# Altium footprint library Linear Technology Footprints.PcbLib: 52 footprints (part 4 of 4)
Each footprint in its own frame and in the unit in brackets; x right, y up, seen from the top. Pads: shape width x height; smd on the part's side, far side on the other; paste and mask are expansions set on the pad; w line width, h text height; cw(c..) or ccw(c..) is an arc to the next point about the centre after c.
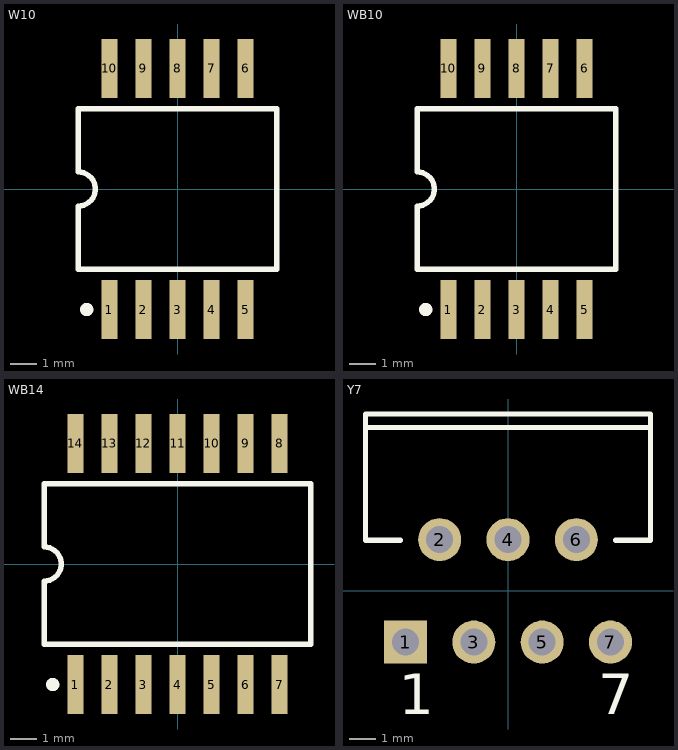
[diagram p3: the footprints below, top view; thin cyan lines are the x and y axes]

## W10 [mm] "DFP; 10 Leads; Body 7.4 x 6.6 mm (LxW max); Pitch 1.27 mm"
height 2.16
pads (10):
  rect 0.6x2.2 smd: 1(-2.54,-4.5) 2(-1.27,-4.5) 3(0,-4.5) 4(1.27,-4.5) 5(2.54,-4.5) 6(2.54,4.5) 7(1.27,4.5) 8(0,4.5) 9(-1.27,4.5) 10(-2.54,4.5)
Top Overlay:
  circle w0.25: c-3.39,-4.5 r0.125
  lines w0.2: -3.7,-3 -3.7,-0.635 ccw(c-3.7,0) -3.7,0.635 -3.7,3 3.7,3 3.7,-3 -3.7,-3

## WB10 [mm] "DFP; 10 Leads; Body 7.4 x 6.6 mm (LxW max); Pitch 1.27 mm"
height 2.93
pads (10):
  rect 0.6x2.2 smd: 1(-2.54,-4.5) 2(-1.27,-4.5) 3(0,-4.5) 4(1.27,-4.5) 5(2.54,-4.5) 6(2.54,4.5) 7(1.27,4.5) 8(0,4.5) 9(-1.27,4.5) 10(-2.54,4.5)
Top Overlay:
  circle w0.25: c-3.39,-4.5 r0.125
  lines w0.2: -3.7,-3 -3.7,-0.635 ccw(c-3.7,0) -3.7,0.635 -3.7,3 3.7,3 3.7,-3 -3.7,-3

## WB14 [mm] "DFP; 14 Leads; Body 9.9 x 6.6 mm (LxW max); Pitch 1.27 mm"
height 2.93
pads (14):
  rect 0.6x2.2 smd: 1(-3.81,-4.5) 2(-2.54,-4.5) 3(-1.27,-4.5) 4(0,-4.5) 5(1.27,-4.5) 6(2.54,-4.5) 7(3.81,-4.5) 8(3.81,4.5) 9(2.54,4.5) 10(1.27,4.5) 11(0,4.5) 12(-1.27,4.5) 13(-2.54,4.5) 14(-3.81,4.5)
Top Overlay:
  circle w0.25: c-4.66,-4.5 r0.125
  lines w0.2: -4.975,-3 4.975,-3 4.975,3 -4.975,3 -4.975,0.635 cw(c-4.975,0) -4.975,-0.635 -4.975,-3

## Y7 [mm] "TO, Thru-Hole, Vertical, Heatsink Mounted; 7 Bent Staggered Leads; Pitch 1.27 mm"
height 21.4
pads (7):
  rect 1.6x1.6 hole 1: 1(-3.81,-1.905)
  round 1.6 hole 1: 2(-2.54,1.905) 3(-1.27,-1.905) 4(0,1.905) 5(1.27,-1.905) 6(2.54,1.905) 7(3.81,-1.905)
Top Overlay:
  lines w0.2: -5.3,6.075 5.3,6.075 ; -4,1.875 -5.3,1.875 -5.3,6.575 5.3,6.575 5.3,1.875 4,1.875
  text "1" at -4.06,-4.58 h1.5
  text "7" at 3.36,-4.58 h1.5